# EAGLE library part 087831-0819 (library Molex)
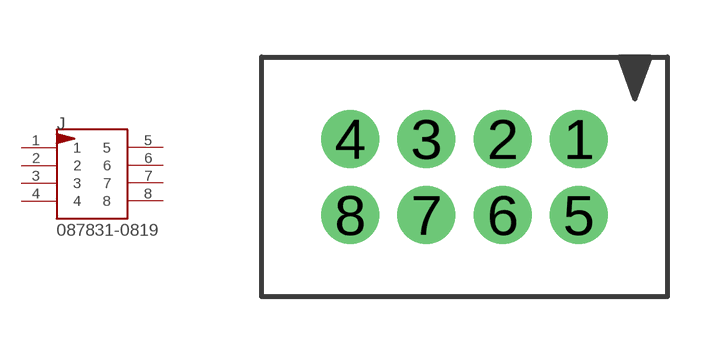
[diagram p0: symbol with the pads of 87831-0819; footprint 87831-0819]

Designator prefix J

## 087831-0819  [87831-0819]
1  1
2  2
3  3
4  4
5  5
6  6
7  7
8  8

## Footprint 87831-0819 (pad centres in mm)
drill 1.016: 1 8.325,4.15; 2 6.325,4.15; 3 4.325,4.15; 4 2.325,4.15; 5 8.325,2.15; 6 6.325,2.15; 7 4.325,2.15; 8 2.325,2.15